# EAGLE library part LT1763 (library SteveMarple)
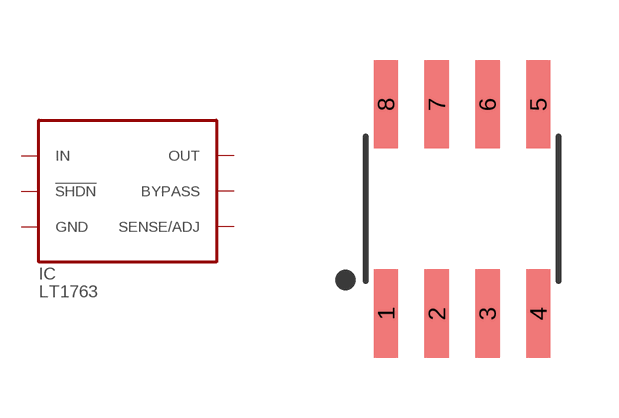
[diagram p44: symbol with the pads of SO08; footprint SO08]

Designator prefix IC

## LT1763SO08  [SO08]
1  OUT  out
2  SENSE/ADJ  in
3  GND  pwr
4  BYPASS
5  !SHDN  in
6  GND  pwr
7  GND  pwr
8  IN  in

## Footprint SO08 (pad centres in mm)
smd 0.61 x 2.21: 1 -1.905,-2.616; 2 -0.635,-2.616; 3 0.635,-2.616; 4 1.905,-2.616; 5 1.905,2.616; 6 0.635,2.616; 7 -0.635,2.616; 8 -1.905,2.616